# Altium footprint library Package_CSP.PcbLib: 178 footprints (part 11 of 12)
Each footprint in its own frame and in the unit in brackets; x right, y up, seen from the top. Pads: shape width x height; smd on the part's side, far side on the other; paste and mask are expansions set on the pad; w line width, h text height; cw(c..) or ccw(c..) is an arc to the next point about the centre after c.
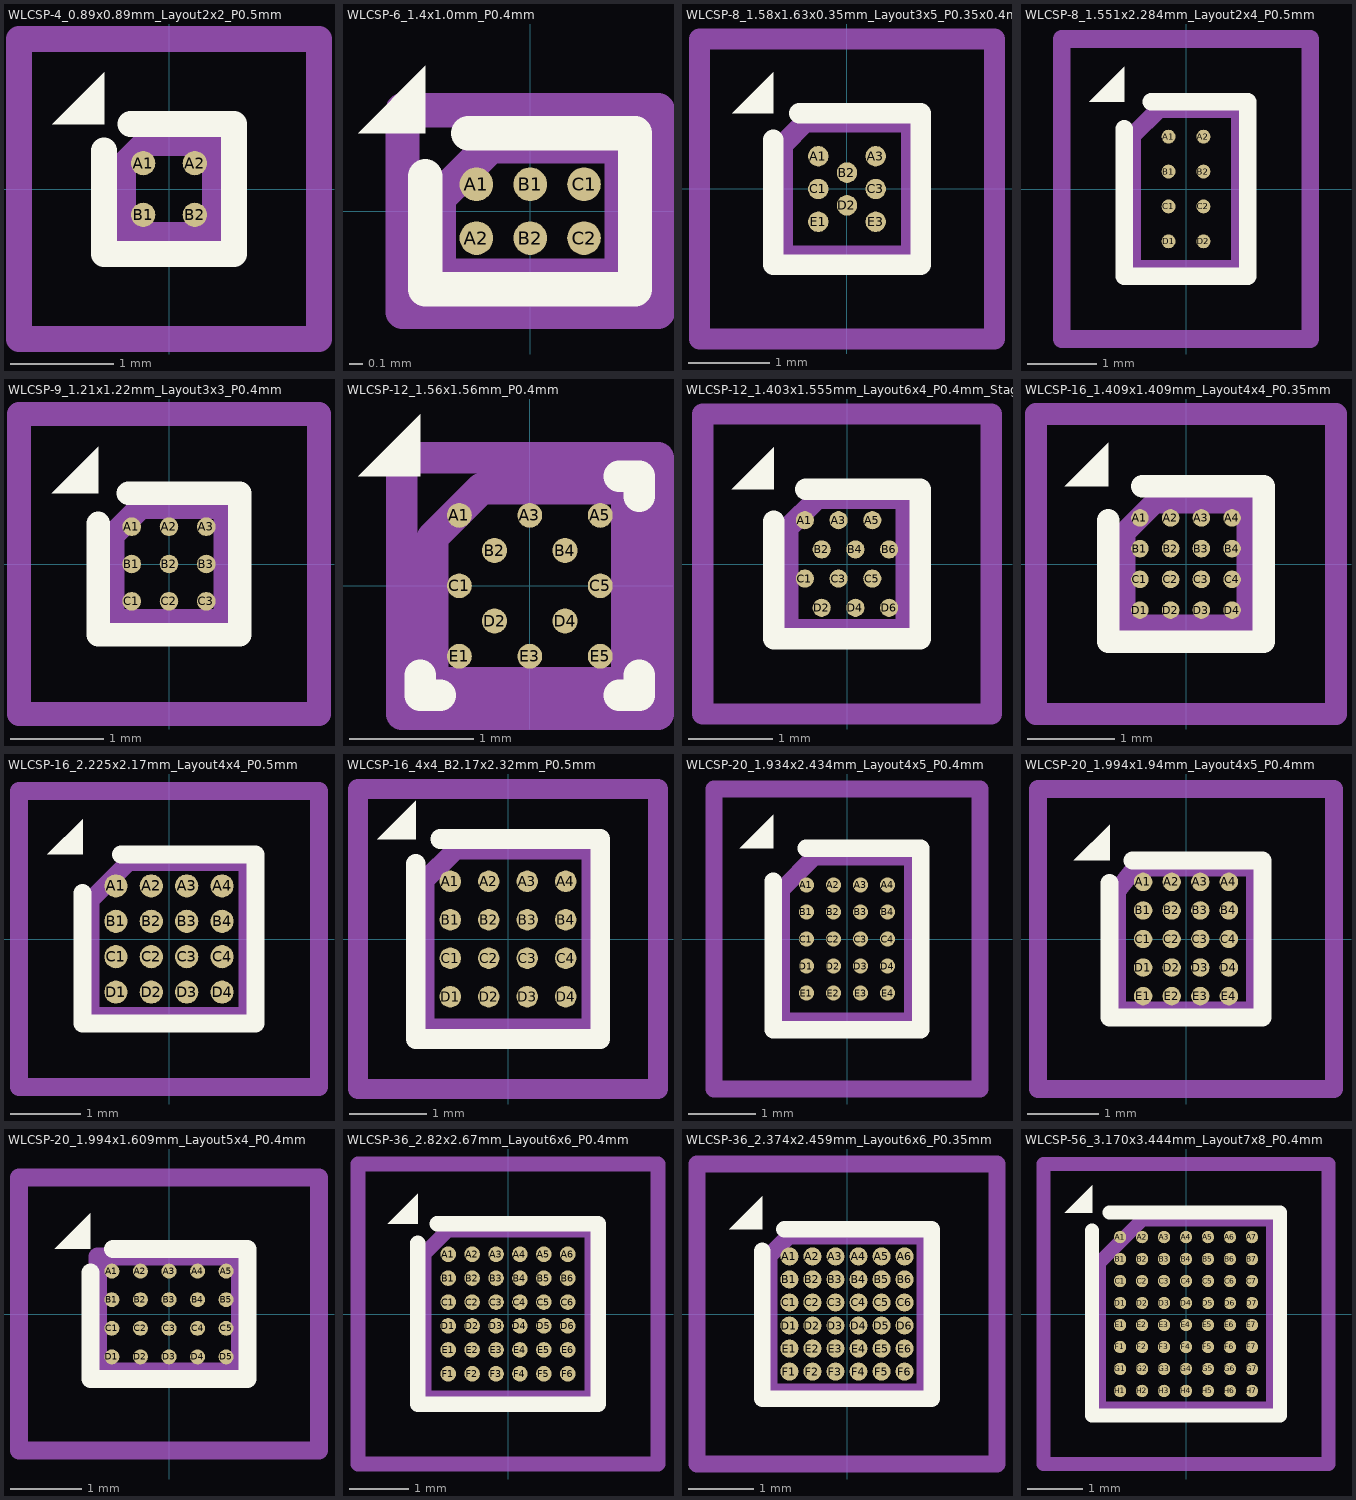
[diagram p10: the footprints below, top view; thin cyan lines are the x and y axes]

## WLCSP-4_0.89x0.89mm_Layout2x2_P0.5mm [mm]
pads (4):
  round 0.235 smd: A1(-0.25,0.25) A2(0.25,0.25) B1(-0.25,-0.25) B2(0.25,-0.25)
F.SilkS:
  region: -0.627,0.627 -1.128,0.627 -0.627,1.128
  lines w0.254: -0.627,0.369 -0.627,-0.627 0.627,-0.627 0.627,0.627 -0.369,0.627
Top Assembly:
  lines w0.254: -0.445,-0.445 0.445,-0.445 0.445,0.445 -0.222,0.445 -0.445,0.222 -0.445,-0.445
  text "'.Designator'" at -0.85,-0.176 h0.21
Top Courtyard:
  lines w0.254: -1.45,-1.45 1.45,-1.45 1.45,1.45 -1.45,1.45 -1.45,-1.45
Top Designator:
  text ".Designator" at -7.618,-0.508 h1.52

## WLCSP-6_1.4x1.0mm_P0.4mm [mm]
pads (6):
  round 0.25 smd: A1(-0.4,0.2) A2(-0.4,-0.2) B1(0,0.2) B2(0,-0.2) C1(0.4,0.2) C2(0.4,-0.2)
F.SilkS:
  region: -0.78,0.58 -1.28,0.58 -0.78,1.08
  lines w0.254: -0.78,0.26 -0.78,-0.58 0.78,-0.58 0.78,0.58 -0.46,0.58
Top Assembly:
  lines w0.254: -0.68,-0.48 0.68,-0.48 0.68,0.48 -0.3,0.48 -0.68,0.1 -0.68,-0.48
  text "'.Designator'" at -4.047,0.86 h1
Top Courtyard:
  lines w0.254: -0.95,-0.75 0.95,-0.75 0.95,0.75 -0.95,0.75 -0.95,-0.75
Top Designator:
  text ".Designator" at -7.768,0.082 h1.52

## WLCSP-8_1.58x1.63x0.35mm_Layout3x5_P0.35x0.4mm_Ball0.25mm_Pad0.25mm_NSMD [mm]
pads (8):
  round 0.25 smd: A1(-0.35,0.4) A3(0.35,0.4) B2(0,0.2) C1(-0.35,0) C3(0.35,0) D2(0,-0.2) E1(-0.35,-0.4) E3(0.35,-0.4)
F.SilkS:
  region: -0.9,0.925 -1.4,0.925 -0.9,1.425
  lines w0.254: -0.9,0.6 -0.9,-0.925 0.9,-0.925 0.9,0.925 -0.58,0.925
Top Assembly:
  lines w0.254: -0.787,-0.816 0.787,-0.816 0.787,0.816 -0.509,0.816 -0.787,0.537 -0.787,-0.816
  text "'.Designator'" at -1.619,-0.336 h0.4
Top Courtyard:
  lines w0.254: -1.8,-1.83 1.8,-1.83 1.8,1.83 -1.8,1.83 -1.8,-1.8
Top Designator:
  text ".Designator" at -7.618,-0.508 h1.52

## WLCSP-8_1.551x2.284mm_Layout2x4_P0.5mm [mm]
pads (8):
  round 0.2 smd: A1(-0.25,0.75) A2(0.25,0.75) B1(-0.25,0.25) B2(0.25,0.25) C1(-0.25,-0.25) C2(0.25,-0.25) D1(-0.25,-0.75) D2(0.25,-0.75)
F.SilkS:
  region: -0.885,1.252 -1.385,1.252 -0.885,1.752
  lines w0.254: -0.885,0.864 -0.885,-1.252 0.885,-1.252 0.885,1.252 -0.498,1.252
Top Assembly:
  lines w0.254: -0.776,-1.142 0.776,-1.142 0.776,1.142 -0.388,1.142 -0.776,0.754 -0.776,-1.142
  text "'.Designator'" at -0.445,2.145 h0.53
Top Courtyard:
  lines w0.254: -1.78,-2.15 1.78,-2.15 1.78,2.15 -1.78,2.15 -1.78,-2.15
Top Designator:
  text ".Designator" at -7.618,-0.508 h1.52

## WLCSP-9_1.21x1.22mm_Layout3x3_P0.4mm [mm]
pads (9):
  round 0.2 smd: A1(-0.4,0.4) A2(0,0.4) A3(0.4,0.4) B1(-0.4,0) B2(0,0) B3(0.4,0) C1(-0.4,-0.4) C2(0,-0.4) C3(0.4,-0.4)
F.SilkS:
  region: -0.76,0.76 -1.26,0.76 -0.76,1.26
  lines w0.254: -0.76,0.435 -0.76,-0.76 0.76,-0.76 0.76,0.76 -0.435,0.76
Top Assembly:
  lines w0.254: -0.605,-0.61 0.605,-0.61 0.605,0.61 -0.302,0.61 -0.605,0.308 -0.605,-0.61
  text "'.Designator'" at -0.235,1.133 h0.28
Top Courtyard:
  lines w0.254: -1.61,-1.61 1.61,-1.61 1.61,1.61 -1.61,1.61 -1.61,-1.61
Top Designator:
  text ".Designator" at -7.618,-0.508 h1.52

## WLCSP-12_1.56x1.56mm_P0.4mm [mm]
pads (12):
  round 0.2 smd: A1(-0.566,0.566) A3(0,0.566) A5(0.566,0.566) B2(-0.283,0.283) B4(0.283,0.283) C1(-0.566,0) C5(0.566,0) D2(-0.283,-0.283) D4(0.283,-0.283) E1(-0.566,-0.566) E3(0,-0.566) E5(0.566,-0.566)
F.SilkS:
  region: -0.88,0.88 -1.38,0.88 -0.88,1.38
  lines w0.254: -0.88,-0.72 -0.88,-0.88 -0.72,-0.88 ; 0.72,-0.88 0.88,-0.88 0.88,-0.72 ; 0.72,0.88 0.88,0.88 0.88,0.72
Top Assembly:
  lines w0.254: -0.78,-0.78 0.78,-0.78 0.78,0.78 -0.39,0.78 -0.78,0.39 -0.78,-0.78
  text "'.Designator'" at -1.214,-0.252 h0.3
Top Courtyard:
  lines w0.254: -1.03,-1.03 1.03,-1.03 1.03,1.03 -1.03,1.03 -1.03,-1.03
Top Designator:
  text ".Designator" at -7.723,-0.396 h1.52

## WLCSP-12_1.403x1.555mm_Layout6x4_P0.4mm_Stagger [mm]
pads (12):
  round 0.215 smd: A1(-0.5,0.52) A3(-0.1,0.52) A5(0.3,0.52) B2(-0.3,0.173) B4(0.1,0.173) B6(0.5,0.173) C1(-0.5,-0.173) C3(-0.1,-0.173) C5(0.3,-0.173) D2(-0.3,-0.52) D4(0.1,-0.52) D6(0.5,-0.52)
F.SilkS:
  region: -0.867,0.887 -1.368,0.887 -0.867,1.388
  lines w0.254: -0.867,0.509 -0.867,-0.887 0.867,-0.887 0.867,0.887 -0.489,0.887
Top Assembly:
  lines w0.254: -0.701,-0.777 0.701,-0.777 0.701,0.777 -0.351,0.777 -0.701,0.427 -0.701,-0.777
  text "'.Designator'" at -0.303,1.457 h0.36
Top Courtyard:
  lines w0.254: -1.71,-1.78 1.71,-1.78 1.71,1.78 -1.71,1.78 -1.71,-1.78
Top Designator:
  text ".Designator" at -7.618,-0.508 h1.52

## WLCSP-16_1.409x1.409mm_Layout4x4_P0.35mm [mm]
pads (16):
  round 0.2 smd: A1(-0.525,0.525) A2(-0.175,0.525) A3(0.175,0.525) A4(0.525,0.525) B1(-0.525,0.175) B2(-0.175,0.175) B3(0.175,0.175) B4(0.525,0.175) C1(-0.525,-0.175) C2(-0.175,-0.175) C3(0.175,-0.175) C4(0.525,-0.175) D1(-0.525,-0.525) D2(-0.175,-0.525) D3(0.175,-0.525) D4(0.525,-0.525)
F.SilkS:
  region: -0.885,0.885 -1.385,0.885 -0.885,1.385
  lines w0.254: -0.885,0.497 -0.885,-0.885 0.885,-0.885 0.885,0.885 -0.497,0.885
Top Assembly:
  lines w0.254: -0.704,-0.704 0.704,-0.704 0.704,0.704 -0.352,0.704 -0.704,0.352 -0.704,-0.704
  text "'.Designator'" at -1.335,-0.277 h0.33
Top Courtyard:
  lines w0.254: -1.71,-1.71 1.71,-1.71 1.71,1.71 -1.71,1.71 -1.71,-1.71
Top Designator:
  text ".Designator" at -7.618,-0.508 h1.52

## WLCSP-16_2.225x2.17mm_Layout4x4_P0.5mm [mm]
pads (16):
  round 0.327 smd: A1(-0.75,0.75) A2(-0.25,0.75) A3(0.25,0.75) A4(0.75,0.75) B1(-0.75,0.25) B2(-0.25,0.25) B3(0.25,0.25) B4(0.75,0.25) C1(-0.75,-0.25) C2(-0.25,-0.25) C3(0.25,-0.25) C4(0.75,-0.25) D1(-0.75,-0.75) D2(-0.25,-0.75) D3(0.25,-0.75) D4(0.75,-0.75)
F.SilkS:
  region: -1.222,1.195 -1.723,1.195 -1.222,1.695
  lines w0.254: -1.222,0.653 -1.222,-1.195 1.222,-1.195 1.222,1.195 -0.68,1.195
Top Assembly:
  lines w0.254: -1.112,-1.085 1.112,-1.085 1.112,1.085 -0.57,1.085 -1.112,0.543 -1.112,-1.085
  text "'.Designator'" at -2.104,-0.437 h0.52
Top Courtyard:
  lines w0.254: -2.12,-2.09 2.12,-2.09 2.12,2.09 -2.12,2.09 -2.12,-2.09
Top Designator:
  text ".Designator" at -7.618,-0.508 h1.52

## WLCSP-16_4x4_B2.17x2.32mm_P0.5mm [mm]
pads (16):
  round 0.28 smd: A1(-0.75,0.75) A2(-0.25,0.75) A3(0.25,0.75) A4(0.75,0.75) B1(-0.75,0.25) B2(-0.25,0.25) B3(0.25,0.25) B4(0.75,0.25) C1(-0.75,-0.25) C2(-0.25,-0.25) C3(0.25,-0.25) C4(0.75,-0.25) D1(-0.75,-0.75) D2(-0.25,-0.75) D3(0.25,-0.75) D4(0.75,-0.75)
F.SilkS:
  region: -1.2,1.3 -1.7,1.3 -1.2,1.8
  lines w0.254: -1.2,0.98 -1.2,-1.3 1.2,-1.3 1.2,1.3 -0.88,1.3
Top Assembly:
  lines w0.254: -1.085,-1.16 1.085,-1.16 1.085,1.16 -0.685,1.16 -1.085,0.76 -1.085,-1.16
  text "'.Designator'" at -4.047,-0.84 h1
Top Courtyard:
  lines w0.254: -1.95,-1.95 1.95,-1.95 1.95,1.95 -1.95,1.95 -1.95,-1.95
Top Designator:
  text ".Designator" at -7.768,-0.508 h1.52

## WLCSP-20_1.934x2.434mm_Layout4x5_P0.4mm [mm]
pads (20):
  round 0.225 smd: A1(-0.6,0.8) A2(-0.2,0.8) A3(0.2,0.8) A4(0.6,0.8) B1(-0.6,0.4) B2(-0.2,0.4) B3(0.2,0.4) B4(0.6,0.4) C1(-0.6,0) C2(-0.2,0) C3(0.2,0) C4(0.6,0) D1(-0.6,-0.4) D2(-0.2,-0.4) D3(0.2,-0.4) D4(0.6,-0.4) E1(-0.6,-0.8) E2(-0.2,-0.8) E3(0.2,-0.8) E4(0.6,-0.8)
F.SilkS:
  region: -1.09,1.34 -1.59,1.34 -1.09,1.84
  lines w0.254: -1.092,0.858 -1.092,-1.342 1.092,-1.342 1.092,1.342 -0.609,1.342
Top Assembly:
  lines w0.254: -0.967,-1.217 0.967,-1.217 0.967,1.217 -0.483,1.217 -0.967,0.734 -0.967,-1.217
  text "'.Designator'" at -1.821,-0.378 h0.45
Top Courtyard:
  lines w0.254: -1.97,-2.22 1.97,-2.22 1.97,2.22 -1.97,2.22 -1.97,-2.22
Top Designator:
  text ".Designator" at -7.618,-0.508 h1.52

## WLCSP-20_1.994x1.94mm_Layout4x5_P0.4mm [mm]
pads (20):
  round 0.258 smd: A1(-0.6,0.8) A2(-0.2,0.8) A3(0.2,0.8) A4(0.6,0.8) B1(-0.6,0.4) B2(-0.2,0.4) B3(0.2,0.4) B4(0.6,0.4) C1(-0.6,0) C2(-0.2,0) C3(0.2,0) C4(0.6,0) D1(-0.6,-0.4) D2(-0.2,-0.4) D3(0.2,-0.4) D4(0.6,-0.4) E1(-0.6,-0.8) E2(-0.2,-0.8) E3(0.2,-0.8) E4(0.6,-0.8)
F.SilkS:
  region: -1.07,1.1 -1.57,1.1 -1.07,1.6
  lines w0.254: -1.07,0.78 -1.07,-1.1 1.07,-1.1 1.07,1.1 -0.75,1.1
Top Assembly:
  lines w0.254: -0.97,-1 0.97,-1 ; -0.97,-0.997 -0.97,0.66 ; -0.97,0.67 -0.71,1 ; -0.7,1 0.97,1 ; 0.97,-0.997 0.97,0.997
  text "'.Designator'" at -1.024,-0.223 h0.25
Top Courtyard:
  lines w0.254: -2.07,-2.1 2.07,-2.1 2.07,2.1 -2.07,2.1 -2.07,-2.1
Top Designator:
  text ".Designator" at -7.618,-0.508 h1.52

## WLCSP-20_1.994x1.609mm_Layout5x4_P0.4mm [mm]
pads (20):
  round 0.21 smd: A1(-0.8,0.6) A2(-0.4,0.6) A3(0,0.6) A4(0.4,0.6) A5(0.8,0.6) B1(-0.8,0.2) B2(-0.4,0.2) B3(0,0.2) B4(0.4,0.2) B5(0.8,0.2) C1(-0.8,-0.2) C2(-0.4,-0.2) C3(0,-0.2) C4(0.4,-0.2) C5(0.8,-0.2) D1(-0.8,-0.6) D2(-0.4,-0.6) D3(0,-0.6) D4(0.4,-0.6) D5(0.8,-0.6)
F.SilkS:
  region: -1.1,0.91 -1.6,0.91 -1.1,1.41
  lines w0.254: -1.1,0.58 -1.1,-0.91 1.1,-0.91 1.1,0.91 -0.78,0.91
Top Assembly:
  lines w0.254: -0.997,-0.804 0.997,-0.804 0.997,0.804 -0.997,0.804 -0.997,-0.804
  text "'.Designator'" at -1.024,-0.223 h0.25
Top Courtyard:
  lines w0.254: -2.1,-1.91 2.1,-1.91 2.1,1.91 -2.1,1.91 -2.1,-1.91
Top Designator:
  text ".Designator" at -7.618,-0.508 h1.52

## WLCSP-36_2.82x2.67mm_Layout6x6_P0.4mm [mm]
pads (36):
  round 0.26 smd: A1(-1,1) A2(-0.6,1) A3(-0.2,1) A4(0.2,1) A5(0.6,1) A6(1,1) B1(-1,0.6) B2(-0.6,0.6) B3(-0.2,0.6) B4(0.2,0.6) B5(0.6,0.6) B6(1,0.6) C1(-1,0.2) C2(-0.6,0.2) C3(-0.2,0.2) C4(0.2,0.2) C5(0.6,0.2) C6(1,0.2) D1(-1,-0.2) D2(-0.6,-0.2) D3(-0.2,-0.2) D4(0.2,-0.2) D5(0.6,-0.2) D6(1,-0.2) E1(-1,-0.6) E2(-0.6,-0.6) E3(-0.2,-0.6) E4(0.2,-0.6) E5(0.6,-0.6) E6(1,-0.6) F1(-1,-1) F2(-0.6,-1) F3(-0.2,-1) F4(0.2,-1) F5(0.6,-1) F6(1,-1)
F.SilkS:
  region: -1.51,1.51 -2.01,1.51 -1.51,2.01
  lines w0.254: -1.51,1.19 -1.51,-1.51 1.51,-1.51 1.51,1.51 -1.19,1.51
Top Assembly:
  lines w0.254: -1.41,-1.41 1.41,-1.41 1.41,1.41 -1,1.41 -1.41,1 -1.41,-1.41
  text "'.Designator'" at -2.073,-0.47 h0.5
Top Courtyard:
  lines w0.254: -2.51,-2.51 2.51,-2.51 2.51,2.51 -2.51,2.51 -2.51,-2.51
Top Designator:
  text ".Designator" at -7.618,-0.508 h1.52

## WLCSP-36_2.374x2.459mm_Layout6x6_P0.35mm [mm]
pads (36):
  round 0.274 smd: A1(-0.875,0.875) A2(-0.525,0.875) A3(-0.175,0.875) A4(0.175,0.875) A5(0.525,0.875) A6(0.875,0.875) B1(-0.875,0.525) B2(-0.525,0.525) B3(-0.175,0.525) B4(0.175,0.525) B5(0.525,0.525) B6(0.875,0.525) C1(-0.875,0.175) C2(-0.525,0.175) C3(-0.175,0.175) C4(0.175,0.175) C5(0.525,0.175) C6(0.875,0.175) D1(-0.875,-0.175) D2(-0.525,-0.175) D3(-0.175,-0.175) D4(0.175,-0.175) D5(0.525,-0.175) D6(0.875,-0.175) E1(-0.875,-0.525) E2(-0.525,-0.525) E3(-0.175,-0.525) E4(0.175,-0.525) E5(0.525,-0.525) E6(0.875,-0.525) F1(-0.875,-0.875) F2(-0.525,-0.875) F3(-0.175,-0.875) F4(0.175,-0.875) F5(0.525,-0.875) F6(0.875,-0.875)
F.SilkS:
  region: -1.287,1.287 -1.787,1.287 -1.287,1.787
  lines w0.254: -1.287,0.96 -1.287,-1.287 1.287,-1.287 1.287,1.287 -0.95,1.287
Top Assembly:
  lines w0.254: -1.187,-1.187 1.187,-1.187 1.187,1.187 -0.88,1.187 -1.187,0.88 -1.187,-1.187
  text "'.Designator'" at -2.073,-0.47 h0.5
Top Courtyard:
  lines w0.254: -2.28,-2.28 2.28,-2.28 2.28,2.28 -2.28,2.28 -2.28,-2.28
Top Designator:
  text ".Designator" at -7.618,-0.508 h1.52

## WLCSP-56_3.170x3.444mm_Layout7x8_P0.4mm [mm]
pads (56):
  round 0.225 smd: A1(-1.2,1.4) A2(-0.8,1.4) A3(-0.4,1.4) A4(0,1.4) A5(0.4,1.4) A6(0.8,1.4) A7(1.2,1.4) B1(-1.2,1) B2(-0.8,1) B3(-0.4,1) B4(0,1) B5(0.4,1) B6(0.8,1) B7(1.2,1) C1(-1.2,0.6) C2(-0.8,0.6) C3(-0.4,0.6) C4(0,0.6) C5(0.4,0.6) C6(0.8,0.6) C7(1.2,0.6) D1(-1.2,0.2) D2(-0.8,0.2) D3(-0.4,0.2) D4(0,0.2) D5(0.4,0.2) D6(0.8,0.2) D7(1.2,0.2) E1(-1.2,-0.2) E2(-0.8,-0.2) E3(-0.4,-0.2) E4(0,-0.2) E5(0.4,-0.2) E6(0.8,-0.2) E7(1.2,-0.2) F1(-1.2,-0.6) F2(-0.8,-0.6) F3(-0.4,-0.6) F4(0,-0.6) F5(0.4,-0.6) F6(0.8,-0.6) F7(1.2,-0.6) G1(-1.2,-1) G2(-0.8,-1) G3(-0.4,-1) G4(0,-1) G5(0.4,-1) G6(0.8,-1) G7(1.2,-1) H1(-1.2,-1.4) H2(-0.8,-1.4) H3(-0.4,-1.4) H4(0,-1.4) H5(0.4,-1.4) H6(0.8,-1.4) H7(1.2,-1.4)
F.SilkS:
  region: -1.71,1.84 -2.21,1.84 -1.71,2.34
  lines w0.254: -1.71,1.52 -1.71,-1.847 1.71,-1.847 1.71,1.847 -1.39,1.847
Top Assembly:
  lines w0.254: -1.585,-1.722 1.585,-1.722 1.585,1.722 -0.793,1.722 -1.585,0.93 -1.585,-1.722
  text "'.Designator'" at -2.995,-0.622 h0.74
Top Courtyard:
  lines w0.254: -2.59,-2.73 2.59,-2.73 2.59,2.73 -2.59,2.73 -2.59,-2.73
Top Designator:
  text ".Designator" at -7.729,-0.508 h1.52